# EAGLE library part ADXL377 (library zortness)
ADXL377 3-Axis 200G analog accelerometer DigiKey <http://www.digikey.com/product-detail/en/ADXL377BCPZ-RL7/ADXL377BCPZ-RL7CT-ND/3678489> Data Sheet <http://www.analog.com/static/imported-files/data_sheets/ADXL377.pdf> Breakout Board <http://www.adafruit.com/products/1413>
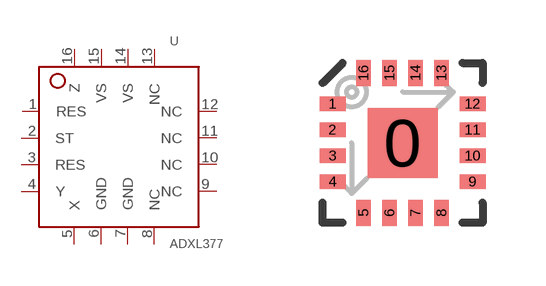
[diagram p9: symbol with the pads of LFCSP-16; footprint LFCSP-16]

Designator prefix -

## ADXL377  [LFCSP-16]
1  RES  nc
2  ST  in
3  RES  nc
4  Y  out
5  X  out
6  GND  pwr
7  GND  pwr
8  NC  nc
9  NC  nc
10  NC  nc
11  NC  nc
12  NC  nc
13  NC  nc
14  VS  pwr
15  VS  pwr
16  Z  out

## Footprint LFCSP-16 (pad centres in mm)
smd 1.75 x 1.75: 0 0,0
smd 0.65 x 0.37: 1 -1.75,0.975; 2 -1.75,0.325; 3 -1.75,-0.325; 4 -1.75,-0.975; 9 1.75,-0.975; 10 1.75,-0.325; 11 1.75,0.325; 12 1.75,0.975
smd 0.37 x 0.65: 5 -0.975,-1.75; 6 -0.325,-1.75; 7 0.325,-1.75; 8 0.975,-1.75; 13 0.975,1.75; 14 0.325,1.75; 15 -0.325,1.75; 16 -0.975,1.75